# EAGLE library part ADS8471 (library ICs)
16-BIT, 1-MSPS, PSEUDO-BIPOLAR, UNIPOLAR INPUT, MICROPOWER SAMPLING ANALOG-TO-DIGITAL CONVERTER WITH PARALLEL INTERFACE AND REFERENCE
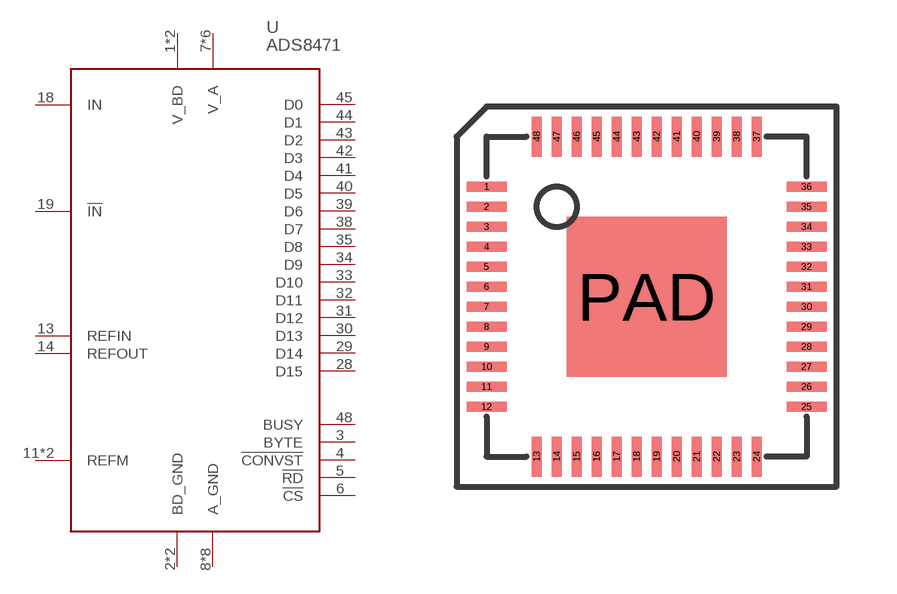
[diagram p78: symbol with the pads of QFP48_PAD; footprint QFP48_PAD]

Designator prefix U

## ADS8471 (DIGIKEY: 296-23013-1-ND; PRICE_PER: 15.32; VALUE: ADS8741)  [QFP48_PAD]
1  V_BD
2  BD_GND
3  BYTE
4  !CONVST
5  !RD
6  !CS
7  V_A
8  A_GND
9  A_GND
10  V_A
11  REFM
12  REFM
13  REFIN
14  REFOUT
16  V_A
17  A_GND
18  IN
19  !IN
20  A_GND
21  V_A
22  V_A
23  A_GND
24  A_GND
25  V_A
26  A_GND
27  A_GND
28  D15
29  D14
30  D13
31  D12
32  D11
33  D10
34  D9
35  D8
36  V_BD
37  BD_GND
38  D7
39  D6
40  D5
41  D4
42  D3
43  D2
44  D1
45  D0
48  BUSY

## Footprint QFP48_PAD (pad centres in mm)
smd 1 x 0.25: 1 -4,2.75; 2 -4,2.25; 3 -4,1.75; 4 -4,1.25; 5 -4,0.75; 6 -4,0.25; 7 -4,-0.25; 8 -4,-0.75; 9 -4,-1.25; 10 -4,-1.75; 11 -4,-2.25; 12 -4,-2.75; 25 4,-2.75; 26 4,-2.25; 27 4,-1.75; 28 4,-1.25; 29 4,-0.75; 30 4,-0.25; 31 4,0.25; 32 4,0.75; 33 4,1.25; 34 4,1.75; 35 4,2.25; 36 4,2.75
smd 0.25 x 1: 13 -2.75,-4; 14 -2.25,-4; 15 -1.75,-4; 16 -1.25,-4; 17 -0.75,-4; 18 -0.25,-4; 19 0.25,-4; 20 0.75,-4; 21 1.25,-4; 22 1.75,-4; 23 2.25,-4; 24 2.75,-4; 37 2.75,4; 38 2.25,4; 39 1.75,4; 40 1.25,4; 41 0.75,4; 42 0.25,4; 43 -0.25,4; 44 -0.75,4; 45 -1.25,4; 46 -1.75,4; 47 -2.25,4; 48 -2.75,4
smd 4 x 4: PAD 0,0